# EAGLE library part LT6200 (library rfops)
Linear Technology LT200 Op Amp
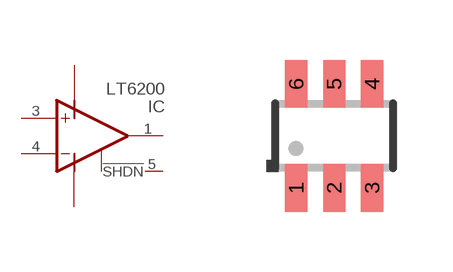
[diagram p1: symbol with the pads of SOT23-6L; footprint SOT23-6L]

Designator prefix IC

## LT6200  [SOT23-6L]
1  OUT  out
2  V-
3  +IN  in
4  -IN  in
5  NSDHN  in
6  V+

## Footprint SOT23-6L (pad centres in mm)
6-Lead SOT23-6L Small Outline Transistor
smd 0.55 x 1.2: 1 -0.95,-1.3; 2 0,-1.3; 3 0.95,-1.3; 4 0.95,1.3; 5 0,1.3; 6 -0.95,1.3